# EAGLE library part MOUSE-BITES-8 (library mouse_bites)
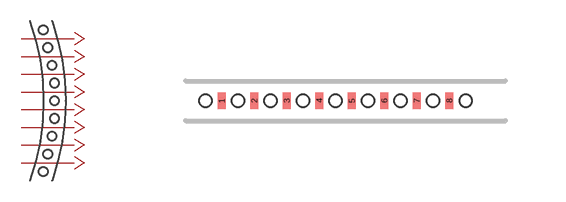
[diagram p0: symbol with the pads of MOUSE-BITES-8; footprint MOUSE-BITES-8]

Designator prefix -

## MOUSE-BITES-8  [MOUSE-BITES-8]
1  1
2  2
3  3
4  4
5  5
6  6
7  7
8  8

## Footprint MOUSE-BITES-8 (pad centres in mm)
smd 0.203 x 0.406: 1 0.406,0; 2 1.219,0; 3 2.032,0; 4 2.845,0; 5 3.658,0; 6 4.47,0; 7 5.283,0; 8 6.096,0
hole 0.305 at 0,0
hole 0.305 at 0.813,0
hole 0.305 at 1.626,0
hole 0.305 at 2.438,0
hole 0.305 at 3.251,0
hole 0.305 at 4.064,0
hole 0.305 at 4.877,0
hole 0.305 at 5.69,0
hole 0.305 at 6.502,0